# EAGLE library part C-02236_WM17117-ND (library USB-ISO)
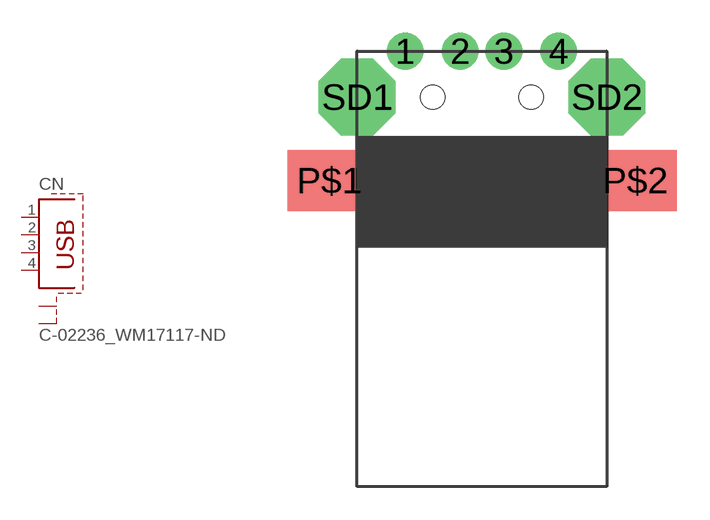
[diagram p1: symbol with the pads of WM17117-ND; footprint WM17117-ND]

Designator prefix CN

## C-02236_WM17117-ND  [WM17117-ND]
1  1  pas
2  2  pas
3  3  pas
4  4  pas
P$1  S1  pas
P$2  S2  pas
SD1  S1  pas
SD2  S2  pas

## Footprint WM17117-ND (pad centres in mm)
drill 1 pad 1.676: 1 -3.5,2.1; 2 -1,2.1; 3 1,2.1; 4 3.5,2.1
smd 3.81 x 2.794: P$1 -6.97,-3.81; P$2 7,-3.81
drill 2.5 pad 3.5 octagon: SD1 -5.7,0; SD2 5.7,0
hole 1.1 at -2.25,0
hole 1.1 at 2.25,0